# Altium schematic symbol library AUVic_Integrated_Library_Virtual_Components.SchLib: 13 symbols
Pins are listed as number, name and electrical type; pins without a type are passive.

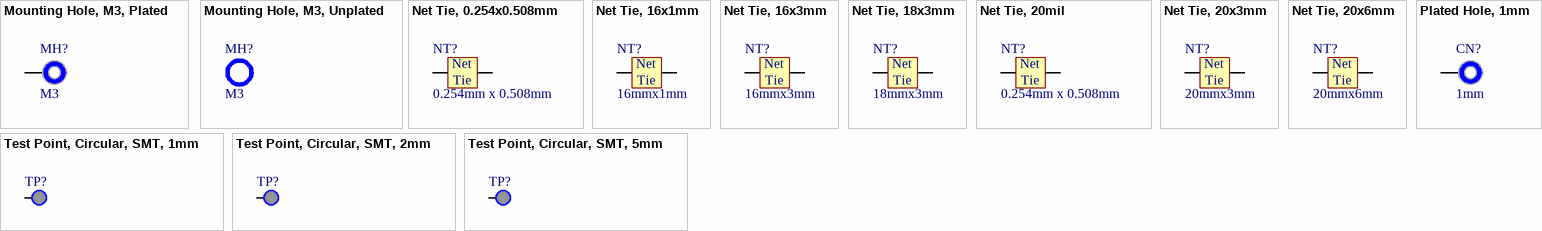
[diagram p0: symbols Mounting Hole, M3, Plated to Test Point, Circular, SMT, 5mm]

## Mounting Hole, M3, Plated
designator MH?, comment M3  (no BOM)
Mounting Hole, M3, Plated; Created By: Ashwin Sira; Publisher: AUVic; Date Created: 2016-06-08
footprint Clearance_M3_PLATED
pins: 1

## Mounting Hole, M3, Unplated
designator MH?, comment M3  (no BOM)
Mounting Hole, M3, Unplated; Created By: Ashwin Sira; Publisher: AUVic; Date Created: 2016-06-08
footprint Clearance_M3_UNPLATED

## Net Tie, 0.254x0.508mm
designator NT?, comment 0.254mm x 0.508mm  (net tie, no BOM)
Net Tie, 20x6mm; Created By: Ashwin Sira; Publisher: AUVic; Date Created: 2016-06-17; Size: 0.254mm x 0.508mm
footprint NETTIE_0.254mm
pins: 1, 2
text: Net; Tie

## Net Tie, 16x1mm
designator NT?, comment 16mmx1mm  (net tie, no BOM)
Net Tie, 16x1mm; Created By: Ashwin Sira; Publisher: AUVic; Date Created: 2016-06-17; Size: 16mmx1mm
footprint NETTIE_16x1mm
pins: 1, 2
text: Net; Tie

## Net Tie, 16x3mm
designator NT?, comment 16mmx3mm  (net tie, no BOM)
Net Tie, 16x3mm; Created By: Ashwin Sira; Publisher: AUVic; Date Created: 2016-06-17; Size: 16mmx3mm
footprint NETTIE_16x3mm
pins: 1, 2
text: Net; Tie

## Net Tie, 18x3mm
designator NT?, comment 18mmx3mm  (net tie, no BOM)
Net Tie, 18x3mm; Created By: Ashwin Sira; Publisher: AUVic; Date Created: 2016-06-17; Size: 18mmx3mm
footprint NETTIE_18x3mm
pins: 1, 2
text: Net; Tie

## Net Tie, 20mil
designator NT?, comment 0.254mm x 0.508mm  (net tie, no BOM)
Net Tie, 20mil by 20mil; Created By: Ashwin Sira; Publisher: AUVic; Date Created: 2016-06-17; Size: 0.254mm x 0.508mm
footprint NETTIE_20mil
pins: 1, 2
text: Net; Tie

## Net Tie, 20x3mm
designator NT?, comment 20mmx3mm  (net tie, no BOM)
Net Tie, 20x3mm; Created By: Ashwin Sira; Publisher: AUVic; Date Created: 2016-06-17; Size: 20mmx3mm
footprint NETTIE_20x3mm
pins: 1, 2
text: Net; Tie

## Net Tie, 20x6mm
designator NT?, comment 20mmx6mm  (net tie, no BOM)
Net Tie, 20x6mm; Created By: Ashwin Sira; Publisher: AUVic; Date Created: 2016-06-17; Size: 20mmx6mm
footprint NETTIE_20x6mm
pins: 1, 2
text: Net; Tie

## Plated Hole, 1mm
designator CN?, comment 1mm  (no BOM)
Plated Hole, 1mm; Created By: Ashwin Sira; Publisher: AUVic; Date Created: 2016-07-10
footprint PLATED_HOLE_1mm
pins: 1

## Test Point, Circular, SMT, 1mm
designator TP?  (value not drawn)  (no BOM)
Test Point, Circular, SMT, 1mm; Publisher: AUVic, Ashwin Sira; Date Published: 2016-06-08; Last Updated: *; Reviewed By: *
footprint TESTPOINT_CIRCULAR_1mm
pins: 1

## Test Point, Circular, SMT, 2mm
designator TP?  (value not drawn)  (no BOM)
Test Point, Circular, SMT, 2mm; Publisher: AUVic, Ashwin Sira; Date Published: 2016-06-08; Last Updated: *; Reviewed By: *
footprint TESTPOINT_CIRCULAR_2mm
pins: 1

## Test Point, Circular, SMT, 5mm
designator TP?  (value not drawn)  (no BOM)
Test Point, Circular, SMT, 5mm; Publisher: AUVic, Ashwin Sira; Date Published: 2016-06-08; Last Updated: *; Reviewed By: *
footprint TESTPOINT_CIRCULAR_5mm
pins: 1